# EAGLE library part IR1150IPBF (library International_Rectifier_By_element14_Batch_1)
ìPFC ONE CYCLE CONTROL PFC IC
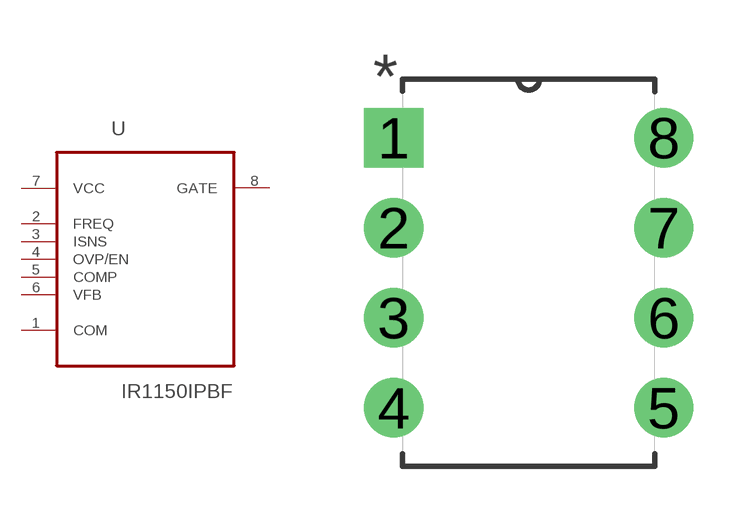
[diagram p23: symbol with the pads of DIP254P762X533-8; footprint DIP254P762X533-8]

Designator prefix U

## IR1150IPBF (MPN: IR1150IPBF; OC_FARNELL: 1827117; OC_NEWARK: -; PACKAGE: DIP-8; SUPPLIER: INTERNATIONAL RECTIFIER)  [DIP254P762X533-8]
1  COM  pas
2  FREQ  in
3  ISNS  in
4  OVP/EN  in
5  COMP  pas
6  VFB  pas
7  VCC  pwr
8  GATE  out

## Footprint DIP254P762X533-8 (pad centres in mm)
drill 1.118 square: 1 -7.62,7.62
drill 1.118: 2 -7.62,5.08; 3 -7.62,2.54; 4 -7.62,0; 5 0,0; 6 0,2.54; 7 0,5.08; 8 0,7.62